# Altium schematic symbol library DC_DC-5V.SchLib: 1 symbol
Pins are listed as number, name and electrical type; pins without a type are passive.

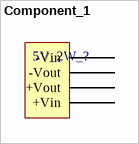
[diagram p0: symbol Component_1]

## Component_1
designator 5V_2W_?, comment RI-2405S  (value not drawn)
Isolated DC/DC Converters 2W DC/DC 1kV UNREG 24Vin 5Vout
pins: 1 -Vin, 2 +Vin, 3 -Vout, 4 +Vout